# EAGLE library part LTC6373 (library analog_2020)
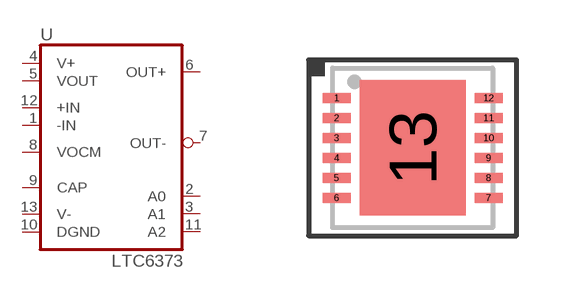
[diagram p2: symbol with the pads of DFN12_DFM; footprint DFN12_DFM]

Designator prefix U

## LTC6373DFM  [DFN12_DFM]
1  -IN  in
2  A0  in
3  A1  in
4  V+  pwr
5  VOUT  pwr
6  OUT+  out
7  OUT-  out
8  VOCM  in
9  CAP  pas
10  DGND  pwr
11  A2  in
12  +IN  in
13  V-  pwr

## Footprint DFN12_DFM (pad centres in mm)
smd 0.7 x 0.25: 1 -1.9,1.25; 2 -1.9,0.75; 3 -1.9,0.25; 4 -1.9,-0.25; 5 -1.9,-0.75; 6 -1.9,-1.25; 7 1.9,-1.25; 8 1.9,-0.75; 9 1.9,-0.25; 10 1.9,0.25; 11 1.9,0.75; 12 1.9,1.25
smd 2.65 x 3.38: 13 0,0